# EAGLE library part PY32F003F18P6_TSSOP_20 (library kxn_Standard_MCU)
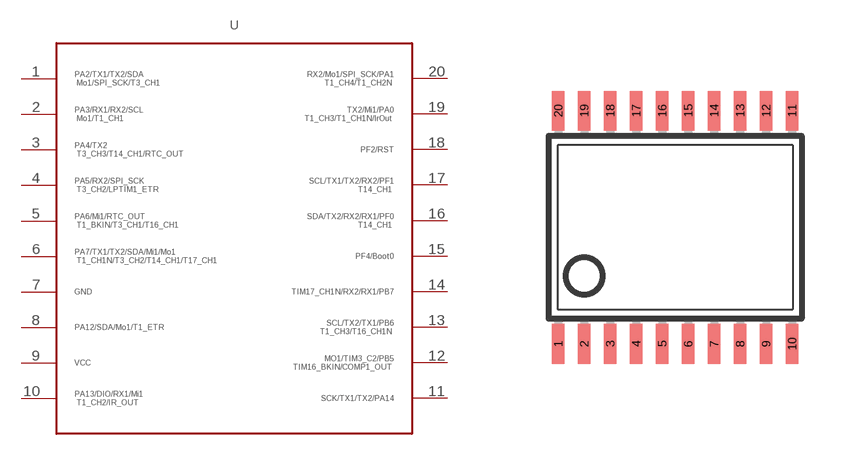
[diagram p13: symbol with the pads of TSSOP20; footprint TSSOP20]

Designator prefix -

## PY32F003F18P6_TSSOP_20_1  [TSSOP20]
1  P$1_PA2
2  P$2_PA3
3  P$3_PA4
4  P$4_PA5
5  P$5_PA6
6  P$6_PA7
7  P$7_GND
8  P$8_PA12
9  P$9_VCC
10  P$10_PA13
11  P$11_PA14
12  P$12_PB5
13  P$13_PB6
14  P$14_PB7
15  P$15_PF4
16  P$16_PF0
17  P$17_PF1
18  P$18_RST
19  P$19_PA0
20  P$20_PA1

## Footprint TSSOP20 (pad centres in mm)
Thin Shrink Small Outline Plastic 20 MAX3223-MAX3243.pdf
smd 0.305 x 0.991: 1 -2.925,-2.918; 2 -2.275,-2.918; 3 -1.625,-2.918; 4 -0.975,-2.918; 5 -0.325,-2.918; 6 0.325,-2.918; 7 0.975,-2.918; 8 1.625,-2.918; 9 2.275,-2.918; 10 2.925,-2.918; 11 2.925,2.918; 12 2.275,2.918; 13 1.625,2.918; 14 0.975,2.918; 15 0.325,2.918; 16 -0.325,2.918; 17 -0.975,2.918; 18 -1.625,2.918; 19 -2.275,2.918; 20 -2.925,2.918